# EAGLE library part PCA9685PW,BS (library FaBo-Motor)
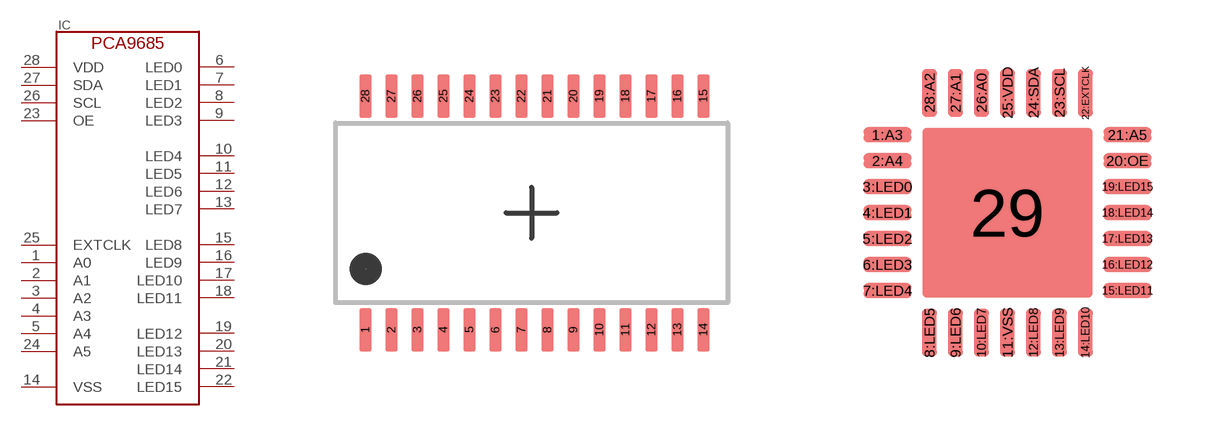
[diagram p10: symbol with the pads of PCA9685; footprints PCA9685, HVQFN28]

Designator prefix IC

## PCA9685PW,BS  [PCA9685]
1  A0
2  A1
3  A2
4  A3
5  A4
6  LED0
7  LED1
8  LED2
9  LED3
10  LED4
11  LED5
12  LED6
13  LED7
14  VSS
15  LED8
16  LED9
17  LED10
18  LED11
19  LED12
20  LED13
21  LED14
22  LED15
23  OE
24  A5
25  EXTCLK
26  SCL
27  SDA
28  VDD

## PCA9685PW,BSPCA9685BS  [HVQFN28]
1:A3  A3
2:A4  A4
3:LED0  LED0
4:LED1  LED1
5:LED2  LED2
6:LED3  LED3
7:LED4  LED4
8:LED5  LED5
9:LED6  LED6
10:LED7  LED7
11:VSS  VSS
12:LED8  LED8
13:LED9  LED9
14:LED10  LED10
15:LED11  LED11
16:LED12  LED12
17:LED13  LED13
18:LED14  LED14
19:LED15  LED15
20:OE  OE
21:A5  A5
22:EXTCLK  EXTCLK
23:SCL  SCL
24:SDA  SDA
25:VDD  VDD
26:A0  A0
27:A1  A1
28:A2  A2
29  VSS

## Footprint PCA9685 (pad centres in mm)
PCA9685PW 2021/06/29 IMPROVED BY TK WIDENING.
smd 0.3 x 1.1: 1 -4.15,-2.93; 2 -3.5,-2.93; 3 -2.85,-2.93; 4 -2.2,-2.93; 5 -1.55,-2.93; 6 -0.9,-2.93; 7 -0.25,-2.93; 8 0.4,-2.93; 9 1.05,-2.93; 10 1.7,-2.93; 11 2.35,-2.93; 12 3,-2.93; 13 3.65,-2.93; 14 4.3,-2.93; 15 4.3,2.92; 16 3.65,2.92; 17 3,2.92; 18 2.35,2.92; 19 1.7,2.92; 20 1.05,2.92; 21 0.4,2.92; 22 -0.25,2.92; 23 -0.9,2.92; 24 -1.55,2.92; 25 -2.2,2.92; 26 -2.85,2.92; 27 -3.5,2.92; 28 -4.15,2.92

## Footprint HVQFN28 (pad centres in mm)
smd 1.2 x 0.38: 1:A3 -3,1.95; 2:A4 -3,1.3; 3:LED0 -3,0.65; 4:LED1 -3,0; 5:LED2 -3,-0.65; 6:LED3 -3,-1.3; 7:LED4 -3,-1.95; 15:LED11 3,-1.95; 16:LED12 3,-1.3; 17:LED13 3,-0.65; 18:LED14 3,0; 19:LED15 3,0.65; 20:OE 3,1.3; 21:A5 3,1.95
smd 0.38 x 1.2: 8:LED5 -1.95,-3; 9:LED6 -1.3,-3; 10:LED7 -0.65,-3; 11:VSS 0,-3; 12:LED8 0.65,-3; 13:LED9 1.3,-3; 14:LED10 1.95,-3; 22:EXTCLK 1.95,3; 23:SCL 1.3,3; 24:SDA 0.65,3; 25:VDD 0,3; 26:A0 -0.65,3; 27:A1 -1.3,3; 28:A2 -1.95,3
smd 4.25 x 4.25: 29 0,0